# EAGLE library part LINE_FILTER_0805 (library akita)
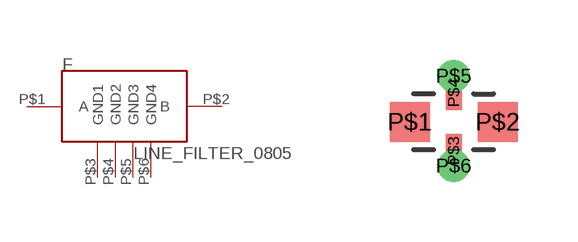
[diagram p112: symbol with the pads of 0805-3PAD; footprint 0805-3PAD]

Designator prefix F

## LINE_FILTER_0805  [0805-3PAD]
P$1  A
P$2  B
P$3  GND1
P$4  GND2
P$5  GND3
P$6  GND4

## Footprint 0805-3PAD (pad centres in mm)
smd 1 x 1: P$1 -1.1,0; P$2 1.1,0
smd 0.4 x 0.85: P$3 0,-0.725; P$4 0,0.725
drill 0.3: P$5 0,1.15; P$6 0,-1.1